# Altium schematic symbol library 16-Amp_lib.SchLib: 5 symbols
Pins are listed as number, name and electrical type; pins without a type are passive.

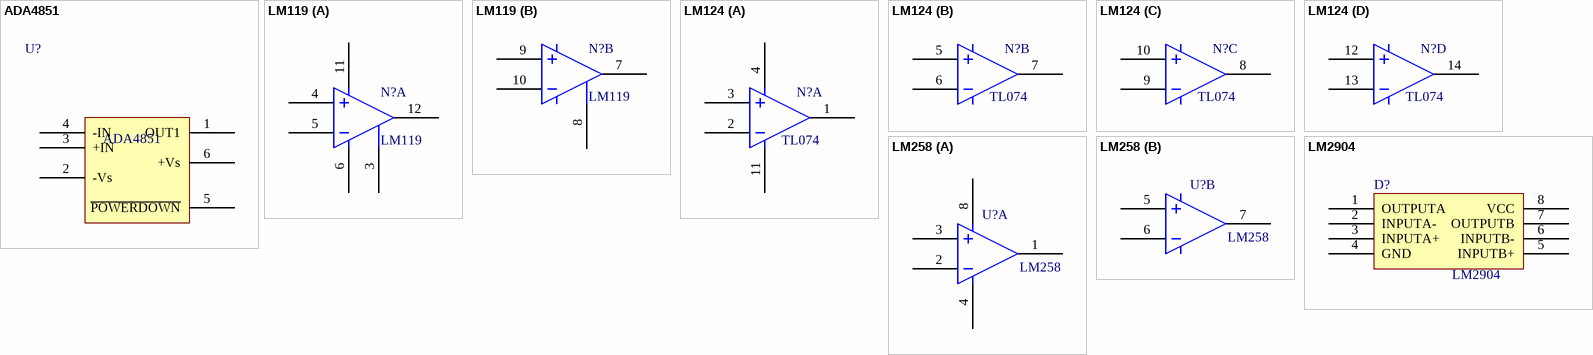
[diagram p0: symbols ADA4851 to LM2904]

## ADA4851
designator U?
footprint SOT-26
pins: 1 OUT1, 2 -Vs, 3 +IN, 4 -IN, 5 ~{POWERDOWN}, 6 +Vs
2 alternate drawings of the same symbol

## LM119
designator N?
footprint DIP-14
footprint SOL-14
footprint SOP14
part A pins: 3, 4, 5, 6, 11, 12
part B pins: 7, 8, 9, 10
2 alternate drawings of the same symbol

## LM124
designator N?, comment TL074
footprint DIP-14
footprint SO-14
part A pins: 1, 2, 3, 4, 11
part B pins: 5, 6, 7
part C pins: 8, 9, 10
part D pins: 12, 13, 14
2 alternate drawings of the same symbol

## LM258
designator U?
两路放大器
footprint SO-8
part A pins: 1, 2, 3, 4, 8
part B pins: 5, 6, 7
2 alternate drawings of the same symbol

## LM2904
designator D?
footprint so-8
pins: 1 OUTPUTA, 2 INPUTA-, 3 INPUTA+, 4 GND, 5 INPUTB+, 6 INPUTB-, 7 OUTPUTB, 8 VCC
2 alternate drawings of the same symbol